# EAGLE library part PIC16F193* (library microchip-update-2)
Flash-Based, 8-Bit CMOS Microcontrollers wtih LCD Driver and nanoWatt XLP Technology Auto generated by make-symbol-device-package-bsdl.ulp Rev. 33 Source: http://ww1.microchip.com/downloads/en/DeviceDoc/41364D.pdf
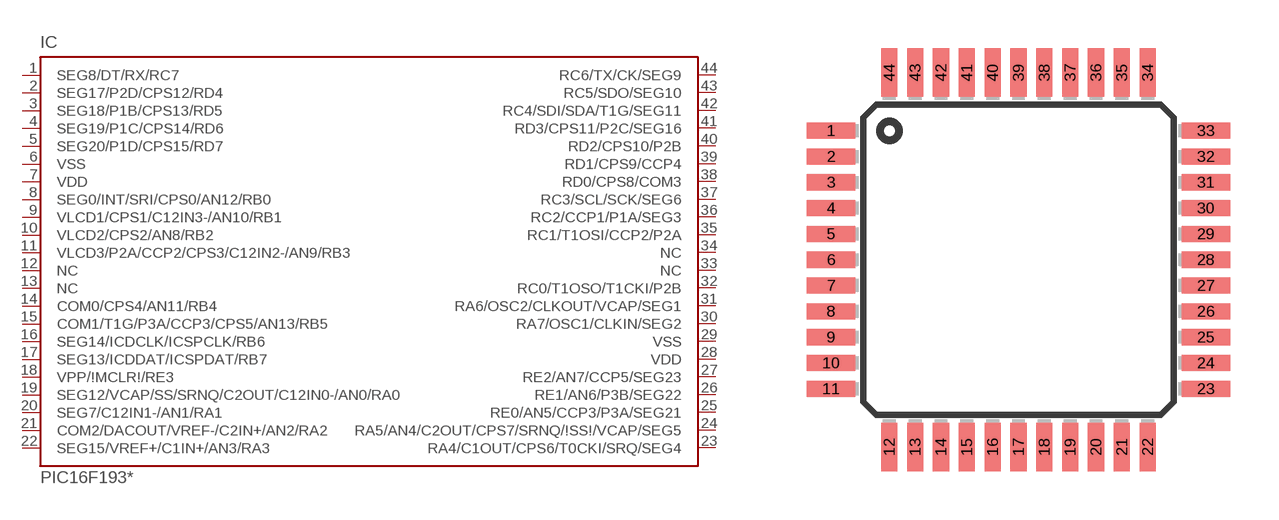
[diagram p132: symbol with the pads of TQFP44; footprint TQFP44]

Designator prefix IC

## PIC16F1934PT, PIC16F1937PT, PIC16F1939PT  [TQFP44]
1  SEG8/DT/RX/RC7
2  SEG17/P2D/CPS12/RD4
3  SEG18/P1B/CPS13/RD5
4  SEG19/P1C/CPS14/RD6
5  SEG20/P1D/CPS15/RD7
6  VSS  pwr
7  VDD  pwr
8  SEG0/INT/SRI/CPS0/AN12/RB0
9  VLCD1/CPS1/C12IN3-/AN10/RB1
10  VLCD2/CPS2/AN8/RB2
11  VLCD3/P2A/CCP2/CPS3/C12IN2-/AN9/RB3
12  NC  nc
13  NC  nc
14  COM0/CPS4/AN11/RB4
15  COM1/T1G/P3A/CCP3/CPS5/AN13/RB5
16  SEG14/ICDCLK/ICSPCLK/RB6
17  SEG13/ICDDAT/ICSPDAT/RB7
18  VPP/\!MCLR\!/RE3  in
19  SEG12/VCAP/SS/SRNQ/C2OUT/C12IN0-/AN0/RA0
20  SEG7/C12IN1-/AN1/RA1
21  COM2/DACOUT/VREF-/C2IN+/AN2/RA2
22  SEG15/VREF+/C1IN+/AN3/RA3
23  RA4/C1OUT/CPS6/T0CKI/SRQ/SEG4
24  RA5/AN4/C2OUT/CPS7/SRNQ/\!SS\!/VCAP/SEG5
25  RE0/AN5/CCP3/P3A/SEG21
26  RE1/AN6/P3B/SEG22
27  RE2/AN7/CCP5/SEG23
28  VDD  pwr
29  VSS  pwr
30  RA7/OSC1/CLKIN/SEG2
31  RA6/OSC2/CLKOUT/VCAP/SEG1
32  RC0/T1OSO/T1CKI/P2B
33  NC  nc
34  NC  nc
35  RC1/T1OSI/CCP2/P2A
36  RC2/CCP1/P1A/SEG3
37  RC3/SCL/SCK/SEG6
38  RD0/CPS8/COM3
39  RD1/CPS9/CCP4
40  RD2/CPS10/P2B
41  RD3/CPS11/P2C/SEG16
42  RC4/SDI/SDA/T1G/SEG11
43  RC5/SDO/SEG10
44  RC6/TX/CK/SEG9

## Footprint TQFP44 (pad centres in mm)
Thin Quad Flat Pack package type TQ
smd 1.5 x 0.5: 1 -5.8,4; 2 -5.8,3.2; 3 -5.8,2.4; 4 -5.8,1.6; 5 -5.8,0.8; 6 -5.8,0; 7 -5.8,-0.8; 8 -5.8,-1.6; 9 -5.8,-2.4; 10 -5.8,-3.2; 11 -5.8,-4; 23 5.8,-4; 24 5.8,-3.2; 25 5.8,-2.4; 26 5.8,-1.6; 27 5.8,-0.8; 28 5.8,0; 29 5.8,0.8; 30 5.8,1.6; 31 5.8,2.4; 32 5.8,3.2; 33 5.8,4
smd 0.5 x 1.5: 12 -4,-5.8; 13 -3.2,-5.8; 14 -2.4,-5.8; 15 -1.6,-5.8; 16 -0.8,-5.8; 17 0,-5.8; 18 0.8,-5.8; 19 1.6,-5.8; 20 2.4,-5.8; 21 3.2,-5.8; 22 4,-5.8; 34 4,5.8; 35 3.2,5.8; 36 2.4,5.8; 37 1.6,5.8; 38 0.8,5.8; 39 0,5.8; 40 -0.8,5.8; 41 -1.6,5.8; 42 -2.4,5.8; 43 -3.2,5.8; 44 -4,5.8